# Altium integrated library PC817.IntLib: 1 symbol
Pins are listed as number, name and electrical type; pins without a type are passive.

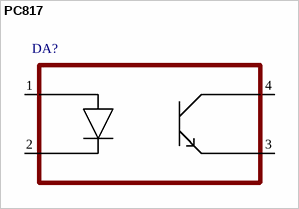
[diagram p0: symbol PC817]

## PC817
designator DA?
footprint 4-SMD
pins: 1 ANODE, 2 CATHODE, 3 EMITTER, 4 COLLECTOR